# Altium footprint library Embedded.PcbLib: 17 footprints (part 1 of 2)
Each footprint in its own frame and in the unit in brackets; x right, y up, seen from the top. Pads: shape width x height; smd on the part's side, far side on the other; paste and mask are expansions set on the pad; w line width, h text height; cw(c..) or ccw(c..) is an arc to the next point about the centre after c.
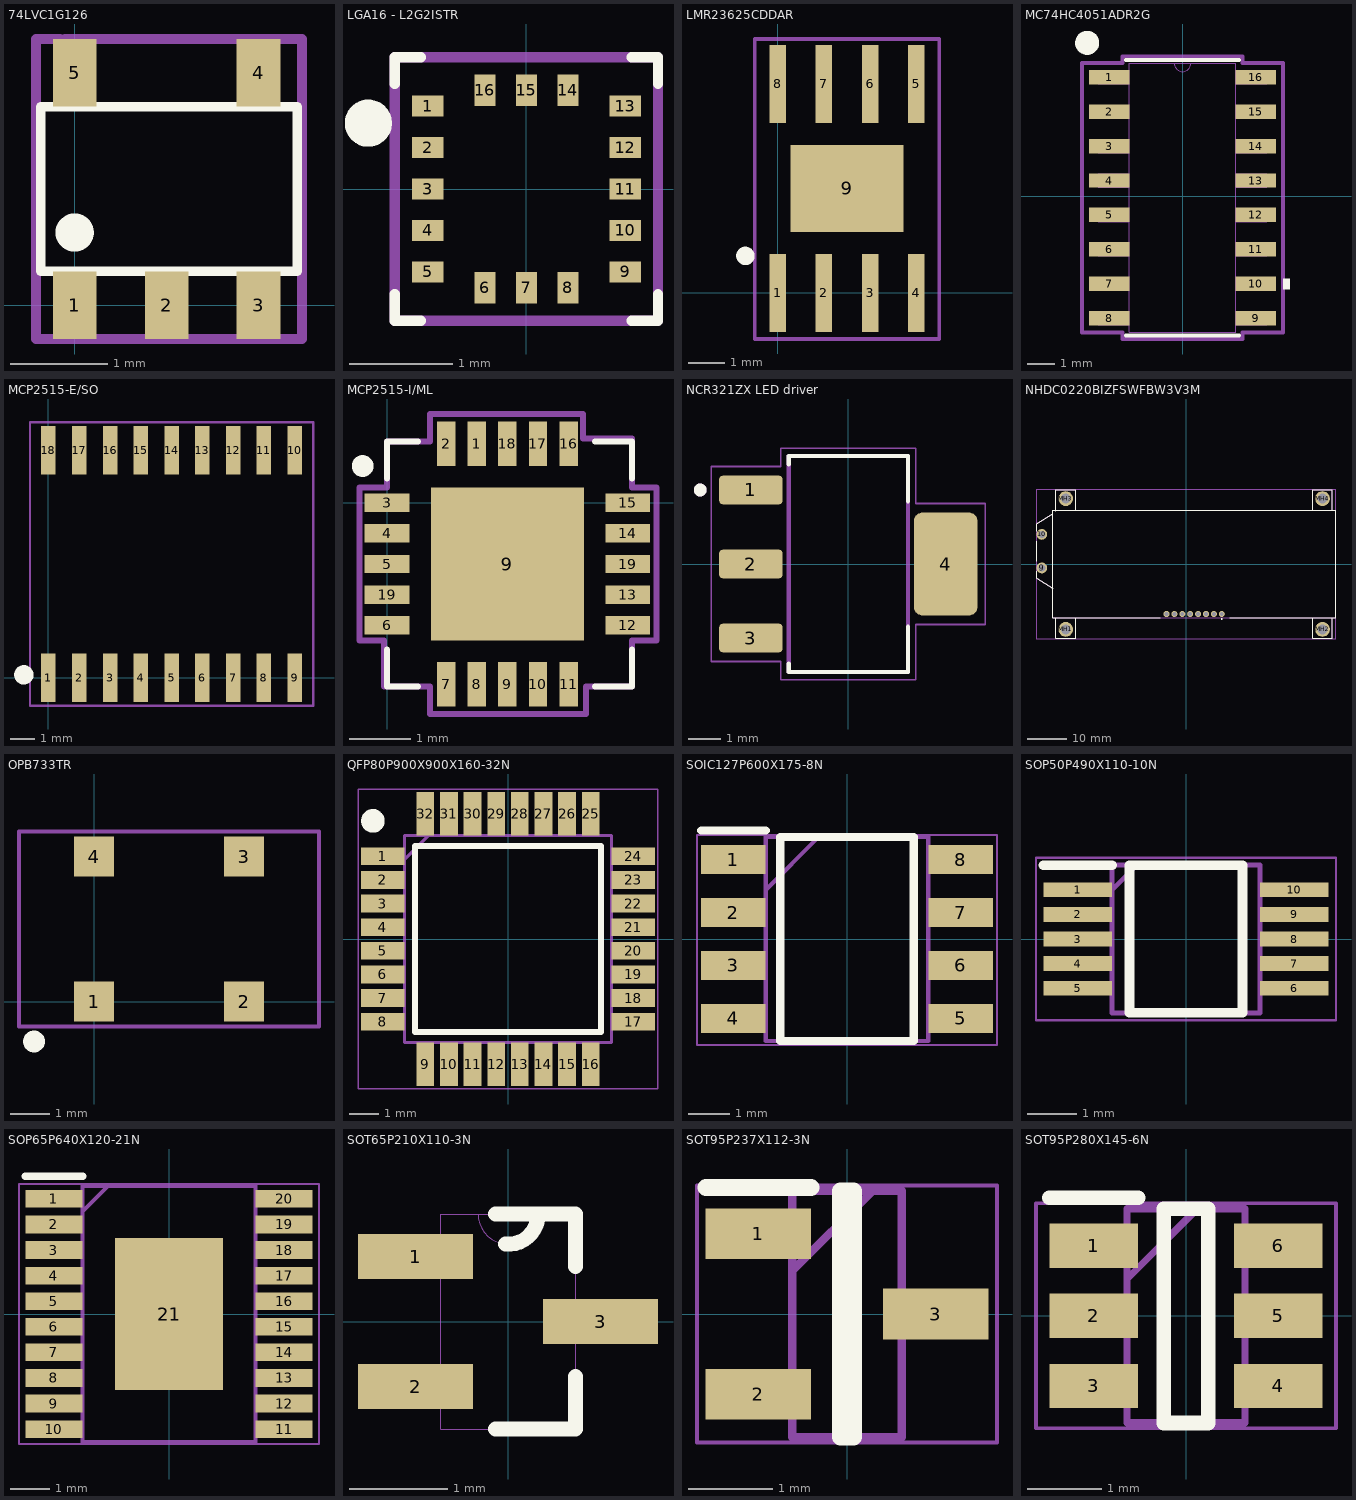
[diagram p0: the footprints below, top view; thin cyan lines are the x and y axes]

## 74LVC1G126 [mm]
pads (5):
  rect 0.45x0.7 smd mask+0: 1(0,0) 2(0.95,0) 3(1.9,0) 4(1.9,2.4) 5(0,2.4)
Top Overlay:
  circle w0.254: c0,0.75 r0.071
  lines w0.1: -0.35,0.35 -0.35,2.05 2.3,2.05 2.3,0.35 -0.35,0.35
Mechanical 15:
  lines w0.1: -0.15,2.75 -0.4,2.75 -0.4,-0.35 2.35,-0.35 2.35,2.75 -0.1,2.75
3D body "DBV0005A.stp": height 1.2, standoff 0, extent -0.5,-0.2 2.4,2.6

## LGA16 - L2G2ISTR [mil] "LGA16 (2.3x2.3)"
pads (16):
  rect 12x8 smd paste-1.2 mask+2: 1(-37.5,31.5) 2(-37.5,15.75) 3(-37.5,0) 4(-37.5,-15.75) 5(-37.5,-31.5) 9(37.5,-31.5) 10(37.5,-15.75) 11(37.5,0) 12(37.5,15.75) 13(37.5,31.5)
  rect 8x12 smd paste-1.2 mask+2: 6(-15.75,-37.5) 7(0,-37.5) 8(15.75,-37.5) 14(15.75,37.5) 15(0,37.5) 16(-15.75,37.5)
Top Overlay:
  circle w10: c-60,25 r3.94
  lines w3.94: -50,-40 -50,-50 -40,-50 ; -50,40 -50,50 -40,50 ; 40,-50 50,-50 50,-40 ; 40,50 50,50 50,40
Mechanical 15:
  lines w3.94: -50,-50 50,-50 50,50 -50,50 -50,-50
3D body "LGA-16_2P3X2P3X0P7_STM.step": height 34.09, standoff 0, extent -47.01,-47.01 47.01,47.01

## LMR23625CDDAR [mm] "8-SO POWERPAD"
pads (9):
  rect 0.45x2.15 smd: 1(0,0) 2(1.27,0) 3(2.54,0) 4(3.81,0) 5(3.81,5.75) 6(2.54,5.75) 7(1.27,5.75) 8(0,5.75)
  rect 3.1x2.4 smd: 9(1.905,2.875)
Top Overlay:
  circle w0.254: c-0.889,1.016 r0.127
Mechanical 15:
  lines w0.1: -0.635,-1.27 -0.635,6.985 4.445,6.985 4.445,-1.27 -0.635,-1.27
3D body "DDA0008E.stp": height 1.57, standoff 0, extent -0.545,-0.125 4.355,5.875

## MC74HC4051ADR2G [mm] "1 Circuit IC Switch 8:1 100Ohm 16-SOIC"
pads (16):
  rect 1.493x0.533 smd paste+0 mask+0: 1(-2.708,4.395) 2(-2.708,3.125) 3(-2.708,1.855) 4(-2.708,0.585) 5(-2.708,-0.685) 6(-2.708,-1.955) 7(-2.708,-3.225) 8(-2.708,-4.495) 9(2.696,-4.495) 10(2.696,-3.225) 11(2.696,-1.955) 12(2.696,-0.685) 13(2.696,0.585) 14(2.696,1.855) 15(2.696,3.125) 16(2.696,4.395)
Top Overlay:
  region: 3.697,-3.034 3.951,-3.034 3.951,-3.415 3.697,-3.415
  lines w0.152: -2.089,-5.13 2.077,-5.13 ; -2.089,5.03 2.077,5.03
  lines w0.6: -3.382,5.685 ccw(c-3.521,5.66) -3.38,5.65
Mechanical 13:
  lines w0: -0.311,4.903 ccw(c-0.006,4.903) 0.299,4.903
  lines w0.025: -3.105,-4.736 -3.105,-4.254 -1.962,-4.254 -1.962,-4.736 -3.105,-4.736 ; -3.105,-3.466 -3.105,-2.984 -1.962,-2.984 -1.962,-3.466 -3.105,-3.466 ; -3.105,-2.196 -3.105,-1.714 -1.962,-1.714 -1.962,-2.196 -3.105,-2.196 ; -3.105,-0.926 -3.105,-0.444 -1.962,-0.444 -1.962,-0.926 -3.105,-0.926 ; -3.105,0.344 -3.105,0.826 -1.962,0.826 -1.962,0.344 -3.105,0.344 ; -3.105,1.614 -3.105,2.096 -1.962,2.096 -1.962,1.614 -3.105,1.614 ; -3.105,2.884 -3.105,3.366 -1.962,3.366 -1.962,2.884 -3.105,2.884 ; -3.105,4.154 -3.105,4.636 -1.962,4.636 -1.962,4.154 -3.105,4.154 ; -1.962,-5.003 1.95,-5.003 1.95,4.903 -1.962,4.903 -1.962,-5.003 ; 1.95,-4.736 1.95,-4.254 3.093,-4.254 3.093,-4.736 1.95,-4.736 ; 1.95,-3.466 1.95,-2.984 3.093,-2.984 3.093,-3.466 1.95,-3.466 ; 1.95,-2.196 1.95,-1.714 3.093,-1.714 3.093,-2.196 1.95,-2.196 ; 1.95,-0.926 1.95,-0.444 3.093,-0.444 3.093,-0.926 1.95,-0.926 ; 1.95,0.344 1.95,0.826 3.093,0.826 3.093,0.344 1.95,0.344 ; 1.95,1.614 1.95,2.096 3.093,2.096 3.093,1.614 1.95,1.614 ; 1.95,2.884 1.95,3.366 3.093,3.366 3.093,2.884 1.95,2.884 ; 1.95,4.154 1.95,4.636 3.093,4.636 3.093,4.154 1.95,4.154
Mechanical 15:
  lines w0.152: -3.709,-5.015 -3.709,4.915 -2.216,4.915 -2.216,5.157 2.204,5.157 2.204,4.915 3.697,4.915 3.697,-5.015 2.204,-5.015 2.204,-5.257 -2.216,-5.257 -2.216,-5.015 -3.709,-5.015
3D body "SOIC-16_ONS.step": height 1.76, standoff 0, extent -3.105,-5.003 3.093,4.903

## MCP2515-E/SO [mm] "18-SOIC 1.27mm pitch"
pads (18):
  rect 0.6x2 smd: 1(0,0) 2(1.27,0) 3(2.54,0) 4(3.81,0) 5(5.08,0) 6(6.35,0) 7(7.62,0) 8(8.89,0) 9(10.16,0) 10(10.16,9.4) 11(8.89,9.4) 12(7.62,9.4) 13(6.35,9.4) 14(5.08,9.4) 15(3.81,9.4) 16(2.54,9.4) 17(1.27,9.4) 18(0,9.4)
Top Overlay:
  circle w0.4: c-1.016,0.127 r0.2
Mechanical 15:
  lines w0.1: -0.762,-1.143 10.922,-1.143 10.922,10.541 -0.762,10.541 -0.762,-1.143
3D body "SOIC18-W_MC_MCH.step": height 2.64, standoff 0, extent -0.698,-0.457 10.858,9.855

## MCP2515-I/ML [mm] "20-VFQFN Exposed Pad"
pads (21):
  rect 0.3x0.73 smd mask+0.07: 1(1.465,0.965) 2(0.965,0.965) 7(0.965,-2.965) 8(1.465,-2.965) 9(1.965,-2.965) 10(2.465,-2.965) 11(2.965,-2.965) 16(2.965,0.965) 17(2.465,0.965) 18(1.965,0.965)
  rect 0.73x0.3 smd mask+0.07: 3(0,0) 4(0,-0.5) 5(0,-1) 6(0,-2) 12(3.93,-2) 13(3.93,-1.5) 14(3.93,-0.5) 15(3.93,0) 19(0,-1.5) 19(3.93,-1)
  rect 2.5x2.5 smd: 9(1.965,-1)
Top Overlay:
  circle w0.254: c-0.4,0.6 r0.05
  lines w0.1: 0,-2.4 0,-3 0.5,-3 ; 0,0.4 0,1 0.5,1 ; 3.4,-3 4,-3 4,-2.4 ; 3.4,1 4,1 4,0.4
Mechanical 15:
  lines w0.1: -0.45,-2.25 -0.45,0.25 0,0.25 0,1 0.7,1 0.7,1.45 3.2,1.45 3.2,1.05 4,1.05 4,0.25 4.4,0.25 4.4,-2.25 4,-2.25 4,-3 3.25,-3 3.25,-3.45 0.7,-3.45 0.7,-3 -0.05,-3 -0.05,-2.25 -0.45,-2.25
3D body "QFN20_4x4MC_MCH.step": height 0.99, standoff 0, extent -0.029,-2.994 3.959,0.994

## NCR321ZX LED driver [mm] "IC LED DRVR LIN PWM 250MA SOT223"
pads (4):
  rrect25% 1.97x0.89 smd: 1(-3.025,2.3) 2(-3.025,0) 3(-3.025,-2.3)
  rrect25% 1.97x3.19 smd: 4(3.025,0)
Top Overlay:
  circle w0.2: c-4.6,2.3 r0.1
  lines w0.127: -1.85,-3.1 -1.85,-3.35 1.85,-3.35 1.85,-1.95 ; -1.85,3.1 -1.85,3.35 1.85,3.35 1.85,1.95
Mechanical 13:
  circle w0.2: c-4.6,2.3 r0.1
  lines w0.127: -1.85,-3.35 -1.85,3.35 1.85,3.35 1.85,-3.35 -1.85,-3.35
Mechanical 15:
  lines w0.05: -4.26,-3.03 -2.1,-3.03 -2.1,-3.6 2.1,-3.6 2.1,-1.88 4.26,-1.88 4.26,1.88 2.1,1.88 2.1,3.6 -2.1,3.6 -2.1,3.03 -4.26,3.03 -4.26,-3.03
3D body "NCR321ZX.STEP": height 1.8, standoff 0, extent -3.75,-3.25 3.25,3.25

## NHDC0220BIZFSWFBW3V3M [mm]
pads (14):
  round 1.524 hole 0.98: 1(9.058,-12.65) 2(7.058,-12.65) 3(5.058,-12.65) 4(3.058,-12.65) 5(1.058,-12.65) 6(-0.942,-12.65) 7(-2.942,-12.65) 8(-4.942,-12.65)
  round 2.73 hole 1.82: 9(-36.492,-1) 10(-36.492,7.5)
  round 3.75 hole 2.5: MH1(-30.442,-16.55) MH2(34.558,-16.55) MH3(-30.442,16.55) MH4(34.558,16.55)
Top Overlay:
  lines w0.1: -37.843,-1.83 -37.843,-3.66 -33.742,-6.2 ; -37.843,0.71 -37.843,5.79 ; -37.843,8.33 -37.843,10.16 -33.742,12.7 ; -32.942,-13.55 -32.942,-18.8 -27.942,-18.8 -27.942,-13.55 ; -32.942,13.41 -32.942,18.8 -27.942,18.8 -27.942,13.55 ; -6.516,-13.55 -33.742,-13.55 -33.742,13.55 37.858,13.55 37.858,-13.55 11.088,-13.55 ; 32.058,-13.55 32.058,-18.8 37.058,-18.8 37.058,-13.55 ; 32.058,13.55 32.058,18.8 37.058,18.8 37.058,13.55
  lines w0.2: 8.958,-13.95 cw(c9.058,-13.95) 9.158,-13.95 cw(c9.058,-13.95) 8.958,-13.95
Mechanical 13:
  lines w0.2: -33.742,-6.2 -37.843,-3.66 -37.843,10.16 -33.742,12.7 ; -32.942,-13.55 -32.942,-18.8 -27.942,-18.8 -27.942,-13.55 ; -32.942,13.55 -32.942,18.8 -27.942,18.8 -27.942,13.55 ; 32.058,-13.55 32.058,-18.8 37.058,-18.8 37.058,-13.55 ; 32.058,13.55 32.058,18.8 37.058,18.8 37.058,13.55 ; -33.742,-13.55 37.858,-13.55 37.858,13.55 -33.742,13.55 -33.742,-13.55
Mechanical 15:
  lines w0.1: -37.973,-18.923 37.973,-18.923 37.973,18.923 -37.973,18.923 -37.973,-18.923
3D body "NHD-C0220BiZ-FSW-FBW-3V3M.STEP": height 6.8, standoff -4.2, extent -37.927,-18.923 37.673,18.677

## OPB733TR [mm] "Phototransistor"
pads (4):
  rect 1.02x1.02 smd: 1(0,0) 2(3.81,0) 3(3.81,3.68) 4(0,3.68)
Top Overlay:
  circle w0.3: c-1.524,-1.016 r0.127
Mechanical 15:
  lines w0.1: -1.905,-0.635 -1.905,4.318 5.715,4.318 5.715,-0.635 0,-0.635 -1.905,-0.635
3D body: height 3.59, standoff 1.61, extent 2.82,0.791 4.8,2.765
3D body: height 3.59, standoff 1.61, extent -0.863,0.791 1.117,2.765
3D body: height 2.89, standoff 0, extent -1.905,-0.254 5.715,3.81

## QFP80P900X900X160-32N [mm]
pads (32):
  rect 1.475x0.6 smd: 1(-4.238,2.8) 2(-4.238,2) 3(-4.238,1.2) 4(-4.238,0.4) 5(-4.238,-0.4) 6(-4.238,-1.2) 7(-4.238,-2) 8(-4.238,-2.8) 17(4.238,-2.8) 18(4.238,-2) 19(4.238,-1.2) 20(4.238,-0.4) 21(4.238,0.4) 22(4.238,1.2) 23(4.238,2) 24(4.238,2.8)
  rect 0.6x1.475 smd: 9(-2.8,-4.238) 10(-2,-4.238) 11(-1.2,-4.238) 12(-0.4,-4.238) 13(0.4,-4.238) 14(1.2,-4.238) 15(2,-4.238) 16(2.8,-4.238) 25(2.8,4.238) 26(2,4.238) 27(1.2,4.238) 28(0.4,4.238) 29(-0.4,4.238) 30(-1.2,4.238) 31(-2,4.238) 32(-2.8,4.238)
Top Overlay:
  circle w0.4: c-4.575,4 r0.2
  lines w0.2: -3.15,-3.15 3.15,-3.15 3.15,3.15 -3.15,3.15 -3.15,-3.15
Mechanical 13:
  lines w0.1: -3.5,2.7 -2.7,3.5 ; -3.5,-3.5 3.5,-3.5 3.5,3.5 -3.5,3.5 -3.5,-3.5
Mechanical 15:
  lines w0.05: -5.08,-5.08 5.08,-5.08 5.08,5.08 -5.08,5.08 -5.08,-5.08
3D body "STM32F042K4T6.stp": height 1.6, standoff 0, extent -4.5,-4.5 4.5,4.5

## SOIC127P600X175-8N [mm]
pads (8):
  rect 1.55x0.7 smd: 1(-2.725,1.905) 2(-2.725,0.635) 3(-2.725,-0.635) 4(-2.725,-1.905) 5(2.725,-1.905) 6(2.725,-0.635) 7(2.725,0.635) 8(2.725,1.905)
Top Overlay:
  lines w0.2: -3.5,2.605 -1.95,2.605 ; -1.6,-2.45 -1.6,2.45 1.6,2.45 1.6,-2.45 -1.6,-2.45
Mechanical 13:
  lines w0.1: -1.95,1.18 -0.68,2.45 ; -1.95,-2.45 -1.95,2.45 1.95,2.45 1.95,-2.45 -1.95,-2.45
Mechanical 15:
  lines w0.05: -3.6,-2.54 3.6,-2.54 3.6,2.496 -3.6,2.496 -3.6,-2.54
3D body "TJA1051T.stp": height 1.75, standoff 0, extent -3,-2.45 3,2.45

## SOP50P490X110-10N [mm]
pads (10):
  rect 1.4x0.3 smd: 1(-2.2,1) 2(-2.2,0.5) 3(-2.2,0) 4(-2.2,-0.5) 5(-2.2,-1) 6(2.2,-1) 7(2.2,-0.5) 8(2.2,0) 9(2.2,0.5) 10(2.2,1)
Top Overlay:
  lines w0.2: -2.9,1.5 -1.5,1.5 ; -1.15,-1.5 -1.15,1.5 1.15,1.5 1.15,-1.5 -1.15,-1.5
Mechanical 13:
  lines w0.1: -1.5,1 -1,1.5 ; -1.5,-1.5 -1.5,1.5 1.5,1.5 1.5,-1.5 -1.5,-1.5
Mechanical 15:
  lines w0.05: -3.048,-1.651 -3.048,1.651 3.048,1.651 3.048,-1.651 -3.048,-1.651
3D body "INA2181A4IDGST.stp": height 1.1, standoff 0, extent -2.45,-1.5 2.45,1.5

## SOP65P640X120-21N [mm]
pads (21):
  rect 1.45x0.45 smd: 1(-2.925,2.925) 2(-2.925,2.275) 3(-2.925,1.625) 4(-2.925,0.975) 5(-2.925,0.325) 6(-2.925,-0.325) 7(-2.925,-0.975) 8(-2.925,-1.625) 9(-2.925,-2.275) 10(-2.925,-2.925) 11(2.925,-2.925) 12(2.925,-2.275) 13(2.925,-1.625) 14(2.925,-0.975) 15(2.925,-0.325) 16(2.925,0.325) 17(2.925,0.975) 18(2.925,1.625) 19(2.925,2.275) 20(2.925,2.925)
  rect 2.74x3.86 smd: 21(0,0)
Top Overlay:
  lines w0.2: -3.65,3.5 -2.2,3.5
Mechanical 13:
  lines w0.1: -2.2,2.6 -1.55,3.25 ; -2.2,-3.25 -2.2,3.25 2.2,3.25 2.2,-3.25 -2.2,-3.25
Mechanical 15:
  lines w0.05: -3.81,-3.302 -3.81,3.302 3.81,3.302 3.81,-3.302 -3.81,-3.302
3D body "LT3501EFE#PBF.stp": height 1.2, standoff 0, extent -3.2,-3.25 3.2,3.25

## SOT65P210X110-3N [mil] "MOSFET N-CH 60V 310MA SOT323"
pads (3):
  rect 46x18 smd: 1(-37,26) 2(-37,-26) 3(37,0)
Top Overlay:
  lines w6: -5,-43 27,-43 27,-22 ; -5,43 12,43 27,43 27,22 ; -1.04,31 ccw(c0.19,42.75) 12,42.96
Mechanical 13:
  lines w0: -27,-33 -27,-43 27,-43 27,-8 ; -27,-33 -27,-18 ; -27,-33 -43,-33 -43,-18 -27,-18 ; -27,-18 -27,18 ; -27,18 -27,33 ; -27,18 -43,18 -43,33 -27,33 ; -27,33 -27,43 -12,43 ; -12,43 ccw(c0,43) 12,43 ; -12,43 12,43 ; 12,43 27,43 27,8 ; 27,-8 27,8 ; 27,-8 43,-8 43,8 27,8
3D body "2N7002PW,115.STEP": height 13.78, standoff -29.53, extent -37.4,-39.37 45.28,39.37

## SOT95P237X112-3N [mm]
pads (3):
  rect 1.25x0.6 smd: 1(-1.05,0.95) 2(-1.05,-0.95) 3(1.05,0)
Top Overlay:
  lines w0.2: -1.675,1.5 -0.425,1.5 ; -0.075,-1.46 0.075,-1.46 0.075,1.46 -0.075,1.46 -0.075,-1.46
Mechanical 13:
  lines w0.1: -0.65,0.51 0.3,1.46 ; -0.65,-1.46 0.65,-1.46 0.65,1.46 -0.65,1.46 -0.65,-1.46
Mechanical 15:
  lines w0.05: -1.778,-1.524 1.778,-1.524 1.778,1.524 -1.778,1.524 -1.778,-1.524
3D body "ATL432AIDBZR.stp": height 1.12, standoff 0, extent -1.185,-1.46 1.185,1.46

## SOT95P280X145-6N [mm]
pads (6):
  rect 1.2x0.6 smd: 1(-1.25,0.95) 2(-1.25,0) 3(-1.25,-0.95) 4(1.25,-0.95) 5(1.25,0) 6(1.25,0.95)
Top Overlay:
  lines w0.2: -1.85,1.6 -0.65,1.6 ; -0.3,-1.45 0.3,-1.45 0.3,1.45 -0.3,1.45 -0.3,-1.45
Mechanical 13:
  lines w0.1: -0.8,0.5 0.15,1.45 ; -0.8,-1.45 0.8,-1.45 0.8,1.45 -0.8,1.45 -0.8,-1.45
Mechanical 15:
  lines w0.05: -2.032,-1.524 2.032,-1.524 2.032,1.524 -2.032,1.524 -2.032,-1.524
3D body "LM74700QDBVRQ1.stp": height 1.45, standoff 0, extent -1.4,-1.45 1.4,1.45